# EAGLE library part ARDUINO_BC (library PCBusinessCard)
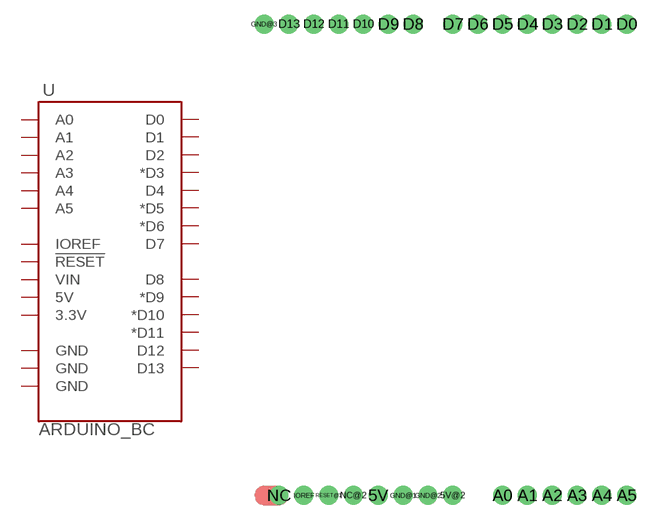
[diagram p1: symbol with the pads of ARDUINO_BC_SINGLEROWS; footprint ARDUINO_BC_SINGLEROWS]

Designator prefix -

## ARDUINO_BC  [ARDUINO_BC_SINGLEROWS]
5V  5V
5V@2  VIN
A0  A0
A1  A1
A2  A2
A3  A3
A4  A4
A5  A5
D0  D0
D1  D1
D2  D2
D3  *D3
D4  D4
D5  *D5
D6  *D6
D7  D7
D8  D8
D9  *D9
D10  *D10
D11  *D11
D12  D12
D13  D13
GND@1  GND
GND@2  GND
GND@3  GND
IOREF  IOREF
NC  3.3V
NC@2  3.3V
RESET@1  !RESET!

## Footprint ARDUINO_BC_SINGLEROWS (pad centres in mm)
Arduino Uno R3 Footprint Includes holes for ICSP header Specifications: Pin count: 38 Area:2.7x2.1in Example device(s): Arduino Uno R3
drill 1.016 pad 1.93: 5V 3.81,-24.13; 5V@2 11.43,-24.13; A0 16.51,-24.13; A1 19.05,-24.13; A2 21.59,-24.13; A3 24.13,-24.13; A4 26.67,-24.13; A5 29.21,-24.13; D0 29.21,24.13; D1 26.67,24.13; D2 24.13,24.13; D3 21.59,24.13; D4 19.05,24.13; D5 16.51,24.13; D6 13.97,24.13; D7 11.43,24.13; D8 7.366,24.13; D9 4.826,24.13; D10 2.286,24.13; D11 -0.254,24.13; D12 -2.794,24.13; D13 -5.334,24.13; GND@1 6.35,-24.13; GND@2 8.89,-24.13; GND@3 -7.874,24.13; IOREF -3.81,-24.13; NC -6.35,-24.13; NC@2 1.27,-24.13; RESET@1 -1.27,-24.13